# EAGLE library part SCDA1A0900_SPI-PADS-ONLY (library con-alps)
SD Memory Connector (SPI Mode) Special "hacked" package for Arlyn
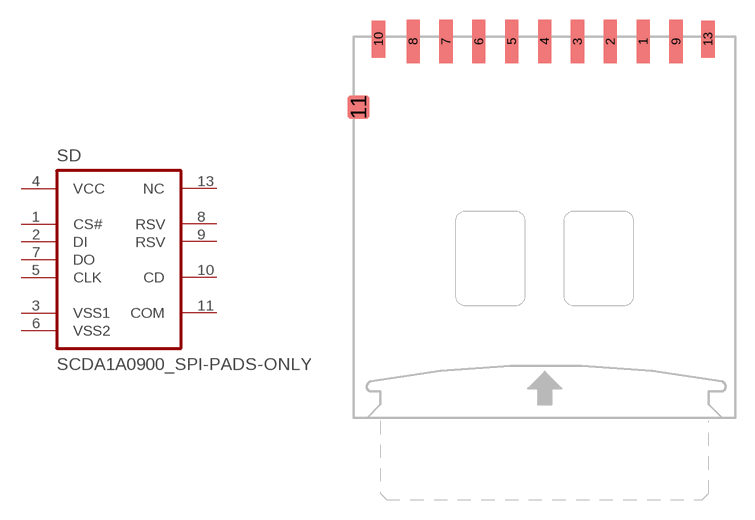
[diagram p3: symbol with the pads of SCDA1A0900-PADS-ONLY; footprint SCDA1A0900-PADS-ONLY]

Designator prefix SD

## SCDA1A0900_SPI-PADS-ONLY  [SCDA1A0900-PADS-ONLY]
1  CS#
2  DI
3  VSS1
4  VCC
5  CLK
6  VSS2
7  DO
8  RSV
9  RSV2
10  CD
11  COM
13  NC  nc

## Footprint SCDA1A0900-PADS-ONLY (pad centres in mm)
smd 1 x 3.3: 1 -4.25,24.15; 2 -6.75,24.15; 3 -9.25,24.15; 4 -11.75,24.15; 5 -14.25,24.15; 6 -16.75,24.15; 7 -19.25,24.15; 8 -21.75,24.15; 9 -1.75,24.15
smd 1 x 2.8: 10 -24.38,24.325; 13 0.675,24.325
smd 1.7 x 1.8: 11 -25.9,19.15